# Altium schematic symbol library Diodes.SchLib: 18 symbols
Pins are listed as number, name and electrical type; pins without a type are passive.

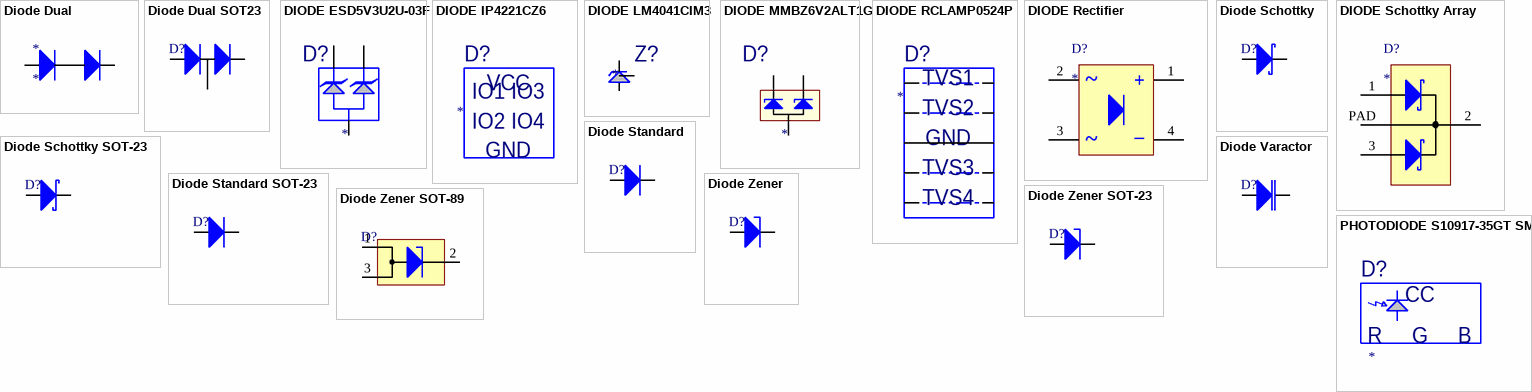
[diagram p0: symbols Diode Dual to PHOTODIODE S10917-35GT SMD]

## Diode Dual
designator *
=Description
pins: 1 A, 2 K, 3 AK

## Diode Dual SOT23
designator D?
=Description
pins: 1 A, 2 K, 3 AK

## DIODE ESD5V3U2U-03F
designator D?
=Description
pins: 1, 2, 3

## DIODE IP4221CZ6
designator D?
=Description
pins: 1, 2, 3, 4, 5, 6
text: VCC; IO1; IO3; IO2; IO4; GND

## DIODE LM4041CIM3
designator Z?
=Description
pins: 1, 2, 3

## DIODE MMBZ6V2ALT1G
designator D?
=Description
pins: 1, 2, 3

## DIODE RCLAMP0524P
designator D?
=Description
pins: 1, 2, 3, 4, 5, 6, 7, 8, 9, 10
text: TVS1; TVS2; GND; TVS3; TVS4

## DIODE Rectifier
designator D?
=Description
pins: 1 +, 2 ~, 3 ~, 4 -
text: _

## Diode Schottky
designator D?
=Description
pins: 1 K, 2 A

## DIODE Schottky Array
designator D?
=Description
pins: 1 A1, 2 K, 3 A2, PAD K

## Diode Schottky SOT-23
designator D?
=Description
pins: 1 A, 3 K

## Diode Standard
designator D?
=Description
pins: 1 K, 2 A

## Diode Standard SOT-23
designator D?
=Description
pins: 1 A, 3 K

## Diode Varactor
designator D?
=Description; ComponentLink1Description: Manufacturer Link; ComponentLink1URL: http://www.zetex.com/
pins: 1 K, 2 A

## Diode Zener
designator D?
=Description
pins: 1 K, 2 A

## Diode Zener SOT-23
designator D?
=Description
pins: 1 A, 3 K

## Diode Zener SOT-89
designator D?
=Description
pins: 1 A, 2 K, 3 A

## PHOTODIODE S10917-35GT SMD
designator D?
=Description
pins: 1, 2, 3, 4
text: CC; R; G; B